# Altium footprint library Potentiometer.PcbLib: 9 footprints
Each footprint in its own frame and in the unit in brackets; x right, y up, seen from the top. Pads: shape width x height; smd on the part's side, far side on the other; paste and mask are expansions set on the pad; w line width, h text height; cw(c..) or ccw(c..) is an arc to the next point about the centre after c.
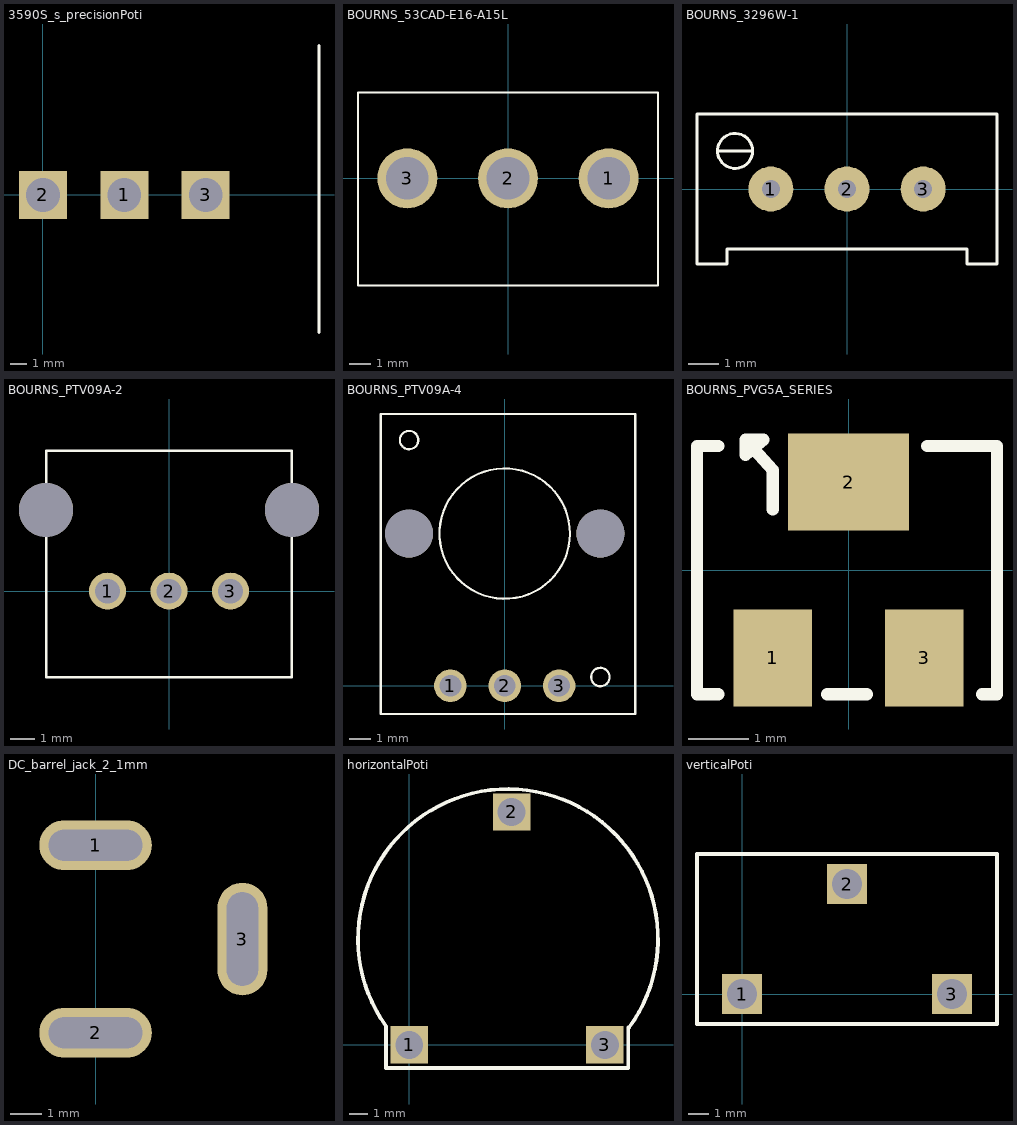
[diagram p0: the footprints below, top view; thin cyan lines are the x and y axes]

## 3590S_s_precisionPoti [mm]
pads (3):
  rect 3x3 hole 2.1: 1(5.08,0) 2(0,0) 3(10.16,0)
Top Overlay:
  lines w0.2: 17.25,-8.6 17.25,9.35
3D body "3590s-1.stp": height 22.11, standoff -4.11, extent -1.489,-11.062 37.729,11.163

## BOURNS_53CAD-E16-A15L [mm] "MODEL 53"
pads (3):
  round 2.8 hole 2 mask+0.07: 1(4.7,0) 2(0,0) 3(-4.7,0)
Top Overlay:
  lines w0.1: -7,-5 7,-5 7,0 7,4 -7,4 -7,-5

## BOURNS_3296W-1 [mm] "3296 - 3/8  Square Trimpot Trimming Potentiometer"
height 10
pads (3):
  round 1.5 hole 0.6: 1(-2.54,0) 2(0,0) 3(2.54,0)
Top Overlay:
  circle w0.1: c-3.73,1.27 r0.583
  lines w0.1: -4.247,1.27 -3.147,1.27 ; -5,-2.5 -4.75,-2.5 -4.25,-2.5 -4,-2.5 -4,-2 4,-2 4,-2.5 5,-2.5 5,2.5 -5,2.5 -5,-2.5
3D body "Bourns_3296W-1-104RLF.STEP": height 11.55, standoff -7.72, extent -4.765,-2.41 4.765,2.42

## BOURNS_PTV09A-2 [mm] "Vertical/Side Mount"
height 15
pads (5):
  round 1.5 hole 1 unplated: 1(-2.5,0) 2(0,0) 3(2.5,0)
  round 2.2 hole 2.2 unplated: ""(-5,3.3) ""(5,3.3)
Top Overlay:
  lines w0.1: -5,-3.5 -5,5.7 5,5.7 5,-3.5 0,-3.5 -5,-3.5

## BOURNS_PTV09A-4 [mm] "PTV09-A, Horizontal Mount"
height 15
pads (5):
  round 1.5 hole 1: 1(-2.5,0) 2(0,0) 3(2.5,0)
  round 2.2 / inner round 2 / far side round 2 hole 2.2 unplated: ""(-4.4,7) ""(4.4,7)
Top Overlay:
  circle w0.1: c0,7 r3
  circle w0.1: c4.4,0.4 r0.424
  circle w0.1: c-4.4,11.3 r0.424
  region: 0.3,10.1
  lines w0.1: -5.7,-1.3 6,-1.3 6,12.5 0,12.5 -5.7,12.5 -5.7,-1.3

## BOURNS_PVG5A_SERIES [mm]
pads (3):
  rect 1.3x1.6 smd: 1(-1.25,-1.45) 3(1.25,-1.45)
  rect 2x1.6 smd: 2(0,1.45)
Top Overlay:
  lines w0.2: -2.15,-2.05 -2.5,-2.05 -2.5,2.05 -2.15,2.05 ; -1.25,1 -1.25,1.65 -1.7,2.15 ; -0.35,-2.05 0.3,-2.05 ; 1.3,2.05 2.45,2.05 2.45,-2.05 2.2,-2.05 ; -1.7,2.15 -1.7,1.9 -1.4,2.15 -1.7,2.15
3D body "pvg5a.stp": height 5.29, standoff 0, extent -2.426,-1.978 2.4,1.978

## DC_barrel_jack_2_1mm [mm]
pads (3):
  rrect100% 3.6x1.6 hole 1 slot 3 at 0 deg: 1(0,13.7) 2(0,7.7)
  rrect100% 1.6x3.6 hole 1 slot 3 at 90 deg: 3(4.7,10.7)
3D body "2.1mm_DC_Power_Socket.stp": height 10.75, standoff -4, extent -4.65,0 5.05,14.2

## horizontalPoti [mm] "lying poti with 3 legs"
height 15
pads (3):
  rect 2x2 hole 1.5: 1(0,0) 2(5.5,12.5) 3(10.5,0)
Top Overlay:
  lines w0.2: 11.75,0.929 11.75,0.188 11.75,-0.437 11.75,-1.25 -1.25,-1.25 -1.25,1 cw(c5.301,5.679) 11.801,0.929

## verticalPoti [mm] "standing poti with 3 legs"
height 22
pads (3):
  rect 2x2 hole 1.5: 1(0,0) 2(5.25,5.5) 3(10.5,0)
Top Overlay:
  lines w0.2: -2.25,-1.5 12.75,-1.5 12.75,7 -2.25,7 -2.25,-1.5